# Altium footprint library PcbLib1.PcbLib: 8 footprints
Each footprint in its own frame and in the unit in brackets; x right, y up, seen from the top. Pads: shape width x height; smd on the part's side, far side on the other; paste and mask are expansions set on the pad; w line width, h text height; cw(c..) or ccw(c..) is an arc to the next point about the centre after c.
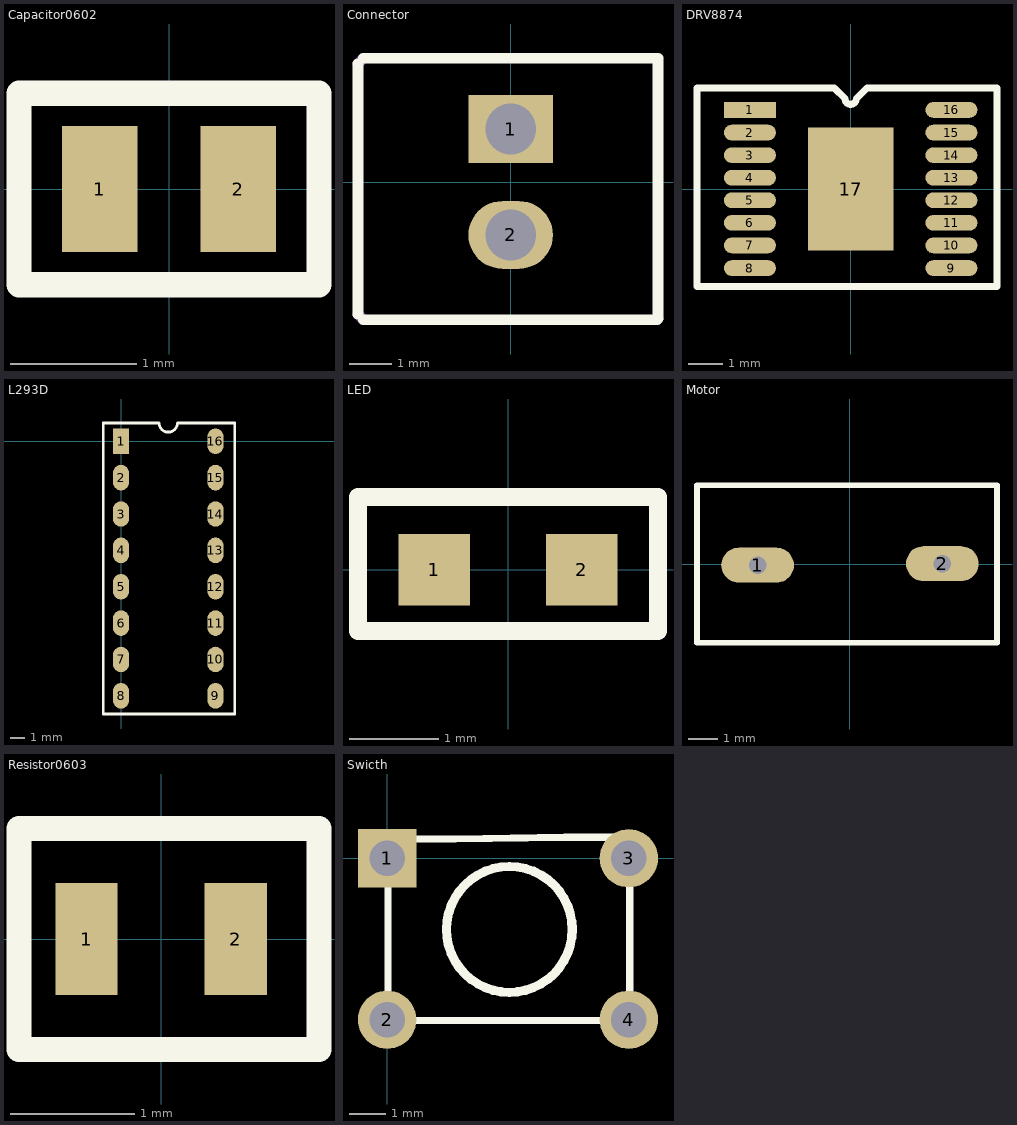
[diagram p0: the footprints below, top view; thin cyan lines are the x and y axes]

## Capacitor0602 [mm]
pads (2):
  rect 0.6x1 smd: 1(-0.55,0) 2(0.55,0)
Top Overlay:
  lines w0.2: -1.194,-0.762 1.194,-0.762 1.194,0.762 -1.194,0.762 -1.194,-0.737 -1.194,-0.762
3D body "capacitor_rnd_1500603b221k500.stp": height 0.8, standoff 0, extent -0.8,-0.419 0.8,0.381

## Connector [mm]
pads (2):
  rect 2x1.6 hole 1.2: 1(0,1.25)
  oval 2x1.6 hole 1.2: 2(0,-1.25)
Top Overlay:
  lines w0.254: -3.607,-3.124 -3.607,2.794 ; -3.48,-3.251 3.454,-3.251 ; -3.48,2.921 3.48,2.921 3.48,-3.226
Mechanical 1:
  lines w0.254: -3.607,-3.124 -3.48,-3.251 ; -3.607,2.794 -3.48,2.921 ; 3.454,-3.251 3.48,-3.226

## DRV8874 [mm]
pads (17):
  rect 1.5x0.45 smd: 1(-2.9,2.275)
  oval 1.5x0.45 smd: 2(-2.9,1.625) 3(-2.9,0.975) 4(-2.9,0.325) 5(-2.9,-0.325) 6(-2.9,-0.975) 7(-2.9,-1.625) 8(-2.9,-2.275) 9(2.9,-2.275) 10(2.9,-1.625) 11(2.9,-0.975) 12(2.9,-0.325) 13(2.9,0.325) 14(2.9,0.975) 15(2.9,1.625) 16(2.9,2.275)
  rect 2.46x3.55 smd: 17(0,0)
Top Overlay:
  lines w0.2: -4.424,-2.805 4.212,-2.805 4.212,2.91 0.472,2.91 0.162,2.6 cw(c0,2.6) -0.162,2.6 -0.472,2.91 -4.424,2.91 -4.424,-2.805
3D body "DRV8874PWPR.STEP": height 1.2, standoff 0, extent -3.2,-2.5 3.2,2.5

## L293D [mm]
pads (16):
  rect 1.14x1.78 smd: 1(0,0)
  oval 1.14x1.78 smd: 2(0,-2.54) 3(0,-5.08) 4(0,-7.62) 5(0,-10.16) 6(0,-12.7) 7(0,-15.24) 8(0,-17.78) 9(6.6,-17.78) 10(6.6,-15.24) 11(6.6,-12.7) 12(6.6,-10.16) 13(6.6,-7.62) 14(6.6,-5.08) 15(6.6,-2.54) 16(6.6,0)
Top Overlay:
  lines w0.2: -1.245,-19.05 7.95,-19.05 7.95,1.27 3.935,1.27 cw(c3.3,1.27) 2.665,1.27 -1.245,1.27 -1.245,-19.05

## LED [mm]
pads (2):
  rect 0.8x0.8 smd: 1(-0.825,0) 2(0.825,0)
Top Overlay:
  lines w0.2: -1.676,-0.686 1.676,-0.686 1.676,0.813 -1.676,0.813 -1.676,-0.686

## Motor [mm]
pads (2):
  oval 2.5x1.2 hole 0.6: 1(-3.175,-0.025) 2(3.175,0.025)
Top Overlay:
  lines w0.2: -5.258,-2.692 -5.258,2.718 -0.767,2.718 5.055,2.718 5.055,2.616 5.055,-2.692 -5.258,-2.692

## Resistor0603 [mm]
pads (2):
  rect 0.5x0.9 smd: 1(-0.6,0) 2(0.6,0)
Top Overlay:
  lines w0.2: -1.143,-0.889 -1.143,-0.275 -1.143,0.889 1.27,0.889 1.27,-0.889 -1.143,-0.889
3D body "CircuitWorks-RESISTOR 0603.STEP": height 0.48, standoff -0.03, extent -0.8,-0.381 0.8,0.479

## Swicth [mil]
pads (4):
  rect 64x64 hole 39: 1(0,0)
  round 64 hole 39: 2(0,-177) 3(265,0) 4(265,-177)
Top Overlay:
  circle w10: c134,-78 r69
  lines w7.87: 1,-178 1,21 75,21 194.5,23 266,23 266,-178 1,-178